# EAGLE library part UHF_RFID_NANO_MODULE (library SparkFun-RF)
UHF 860 and 920MHz RFID Module from ThingMagic
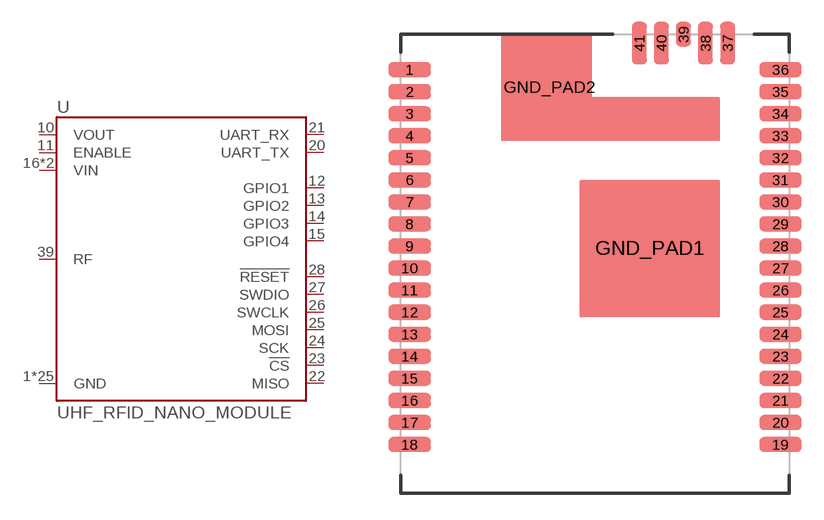
[diagram p44: symbol with the pads of NANO_MODULE; footprint NANO_MODULE]

Designator prefix U

## UHF_RFID_NANO_MODULE (PROD_ID: IC-13540; VALUE: Nano)  [NANO_MODULE]
1  GND
2  GND
3  GND
4  GND
5  GND
6  GND
7  GND
8  GND
9  GND
10  VOUT
11  ENABLE
12  GPIO1
13  GPIO2
14  GPIO3
15  GPIO4
16  VIN
17  VIN
18  GND
19  GND
20  UART_TX
21  UART_RX
22  MISO
23  !CS
24  SCK
25  MOSI
26  SWCLK
27  SWDIO
28  !RESET
29  GND
30  GND
31  GND
32  GND
33  GND
34  GND
35  GND
36  GND
37  GND
38  GND
39  RF
40  GND
41  GND
GND_PAD1  GND
GND_PAD2  GND

## Footprint NANO_MODULE (pad centres in mm)
smd 2.4 x 0.85: 1 -10.5,11; 2 -10.5,9.75; 3 -10.5,8.5; 4 -10.5,7.25; 5 -10.5,6; 6 -10.5,4.75; 7 -10.5,3.5; 8 -10.5,2.25; 9 -10.5,1; 10 -10.5,-0.25; 11 -10.5,-1.5; 12 -10.5,-2.75; 13 -10.5,-4; 14 -10.5,-5.25; 15 -10.5,-6.5; 16 -10.5,-7.75; 17 -10.5,-9; 18 -10.5,-10.25; 19 10.5,-10.25; 20 10.5,-9; 21 10.5,-7.75; 22 10.5,-6.5; 23 10.5,-5.25; 24 10.5,-4; 25 10.5,-2.75; 26 10.5,-1.5; 27 10.5,-0.25; 28 10.5,1; 29 10.5,2.25; 30 10.5,3.5; 31 10.5,4.75; 32 10.5,6; 33 10.5,7.25; 34 10.5,8.5; 35 10.5,9.75; 36 10.5,11
smd 0.85 x 2.4: 37 7.5,12.5; 38 6.25,12.5; 40 3.75,12.5; 41 2.5,12.5
smd 0.85 x 1.4: 39 5,13
smd 5 x 5: GND_PAD1 3.1,0.9
smd 4 x 4: GND_PAD2 -2.6,10